# Altium footprint library WE-PFC.PcbLib: 8 footprints
Each footprint in its own frame and in the unit in brackets; x right, y up, seen from the top. Pads: shape width x height; smd on the part's side, far side on the other; paste and mask are expansions set on the pad; w line width, h text height; cw(c..) or ccw(c..) is an arc to the next point about the centre after c.
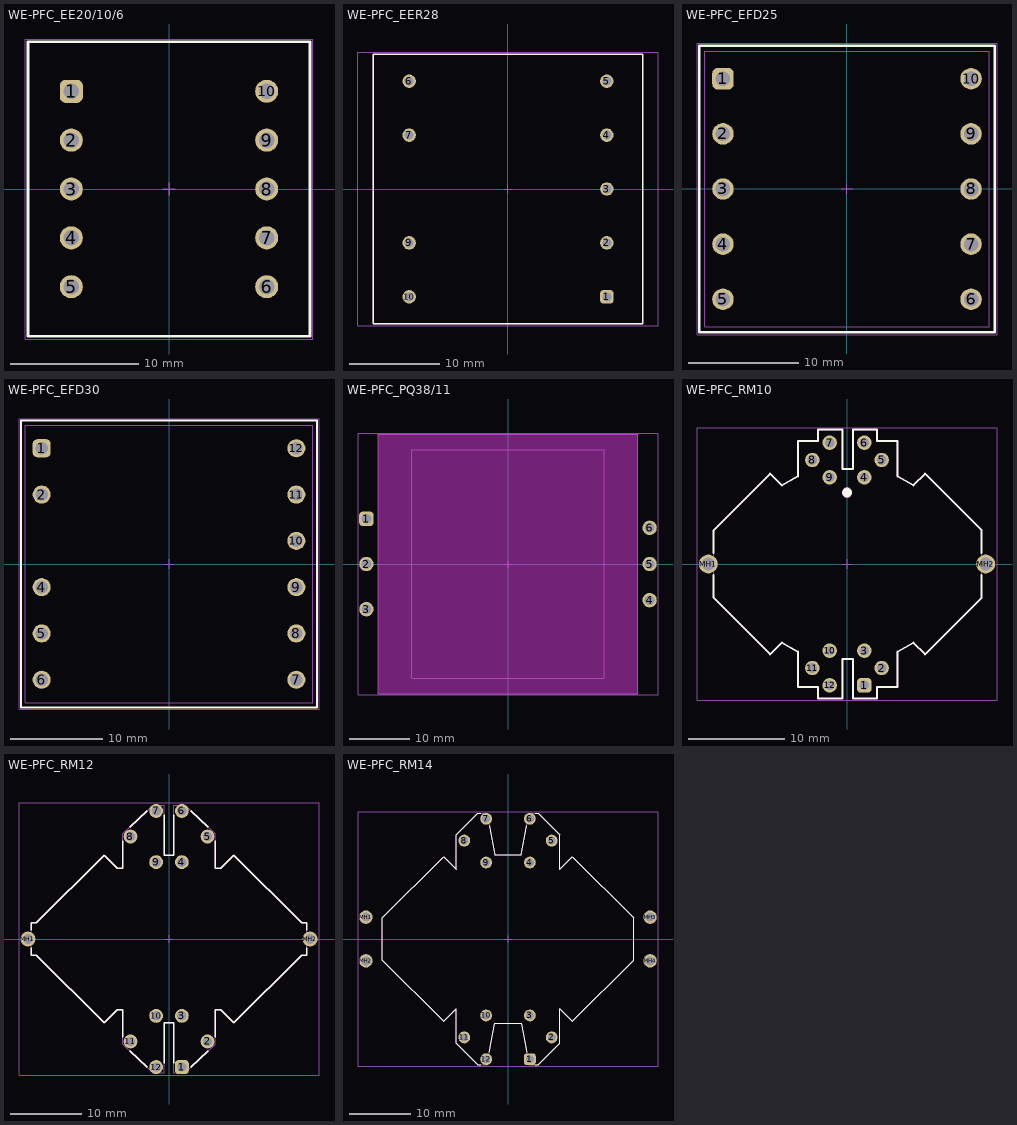
[diagram p0: the footprints below, top view; thin cyan lines are the x and y axes]

## WE-PFC_EE20/10/6 [mm] "PFC Choke, THT, body 22x23mm"
height 17.5
pads (10):
  rrect50% 1.8x1.8 hole 1.2: 1(-7.62,7.62)
  round 1.8 hole 1.2: 2(-7.62,3.81) 3(-7.62,0) 4(-7.62,-3.81) 5(-7.62,-7.62) 6(7.62,-7.62) 7(7.62,-3.81) 8(7.62,0) 9(7.62,3.81) 10(7.62,7.62)
Top Overlay:
  lines w0.2: -11,-11.5 11,-11.5 11,11.5 -11,11.5 -11,-11.5
Top Assembly:
  lines w0.1: -11,-11.5 -11,11.5 11,11.5 11,-11.5 -11,-11.5
Top Designator:
  text ".Designator" at -3.647,-0.357 h1
Top Courtyard:
  lines w0.05: -11.2,-11.7 -11.2,11.7 11.2,11.7 11.2,-11.7 -11.2,-11.7
Top Component Center:
  lines w0.1: -0.5,0 0.5,0 ; 0,-0.5 0,0.5
3D body "EE20_760800080.stp": height 17.05, standoff -3.4, extent -10.55,-11 10.55,11

## WE-PFC_EER28 [mm] "PFC Choke, THT, body 33X30mm"
height 23
pads (9):
  rrect50% 1.5x1.5 hole 1: 1(11,-12)
  round 1.5 hole 1: 2(11,-6) 3(11,0) 4(11,6) 5(11,12) 6(-11,12) 7(-11,6) 9(-11,-6) 10(-11,-12)
Top Overlay:
  lines w0.2: -15,-15 15,-15 15,15 -15,15 -15,-15
Top Assembly:
  lines w0.1: -15,-15 -15,15 15,15 15,-15 -15,-15
Top Designator:
  text ".Designator" at -3.647,-0.357 h1
Top Courtyard:
  lines w0.05: -16.7,-15.2 16.7,-15.2 16.7,15.2 -16.7,15.2 -16.7,-15.2
Top Component Center:
  lines w0.1: -0.5,0 0.5,0 ; 0,-0.5 0,0.5
3D body "EER28_760803200.stp": height 21.4, standoff -3.95, extent -16.5,-14.5 16.5,14.5

## WE-PFC_EFD25 [mm] "PFC Choke, THT, body 25.81X25mm"
height 13.1
pads (10):
  rrect50% 1.95x1.95 hole 1.32: 1(-11.25,10)
  round 1.95 hole 1.32: 2(-11.25,5) 3(-11.25,0) 4(-11.25,-5) 5(-11.25,-10) 6(11.25,-10) 7(11.25,-5) 8(11.25,0) 9(11.25,5) 10(11.25,10)
Top Overlay:
  lines w0.2: -13.405,-13 -13.405,13 13.405,13 13.405,-13 -13.405,-13
Top Assembly:
  lines w0.1: -12.905,-12.5 -12.905,12.5 12.905,12.5 12.905,-12.5 -12.905,-12.5
Top Designator:
  text ".Designator" at -3.647,-0.357 h1
Top Courtyard:
  lines w0.05: -13.605,-13.2 -13.605,13.2 13.605,13.2 13.605,-13.2 -13.605,-13.2
Top Component Center:
  lines w0.1: -0.5,0 0.5,0 ; 0,-0.5 0,0.5
3D body "EFD25_760801031.stp": height 13.15, standoff -3.45, extent -12.905,-12.5 12.905,12.5

## WE-PFC_EFD30 [mm] "PFC Choke, THT, body 31x30mm"
height 14
pads (11):
  rrect50% 1.95x1.95 hole 1.32: 1(-13.75,12.5)
  round 1.95 hole 1.32: 2(-13.75,7.5) 4(-13.75,-2.5) 5(-13.75,-7.5) 6(-13.75,-12.5) 7(13.75,-12.5) 8(13.75,-7.5) 9(13.75,-2.5) 10(13.75,2.5) 11(13.75,7.5) 12(13.75,12.5)
Top Overlay:
  lines w0.2: -16,-15.5 -16,15.5 16,15.5 16,-15.5 -16,-15.5
Top Assembly:
  lines w0.1: -15.5,-15 -15.5,15 15.5,15 15.5,-15 -15.5,-15
Top Designator:
  text ".Designator" at -3.647,-0.357 h1
Top Courtyard:
  lines w0.05: -16.2,-15.7 -16.2,15.7 16.2,15.7 16.2,-15.7 -16.2,-15.7
Top Component Center:
  lines w0.1: -0.5,0 0.5,0 ; 0,-0.5 0,0.5
3D body "EFD30_760802113.stp": height 13.3, standoff -3.5, extent -15.5,-15 15.5,15

## WE-PFC_PQ38/11 [mm] "PFC Choke, THT, body 32x38mm"
height 14
pads (6):
  rrect50% 2.4x2.4 hole 1.6: 1(-23.5,7.5)
  round 2.4 hole 1.6: 2(-23.5,0) 3(-23.5,-7.5) 4(23.5,-6) 5(23.5,0) 6(23.5,6)
Keep-Out Layer:
  board cut-out: -21.5,21.5 21.5,21.5 21.5,-21.5 -21.5,-21.5
Board Shape:
  lines w0.1: -21.5,-21.5 -21.5,21.5 21.5,21.5 21.5,-21.5 -21.5,-21.5
  text "PCB Cutout Area" at -7.2,-0.5 h1.22
Top Assembly:
  lines w0.1: -16,-19 16,-19 16,19 -16,19 -16,-19
Top Designator:
  text ".Designator" at -3.647,-0.357 h1
Top Courtyard:
  lines w0.05: -24.9,-21.7 -24.9,21.7 24.9,21.7 24.9,-21.7 -24.9,-21.7
Top Component Center:
  lines w0.1: -0.5,0 0.5,0 ; 0,-0.5 0,0.5
3D body "PQ38_760806302.stp": height 11.25, standoff -1.78, extent -23.9,-19 23.9,19

## WE-PFC_RM10 [mm] "PFC Choke, THT, body 31x29mm"
height 20
pads (14):
  rrect50% 1.5x1.5 hole 1: 1(1.795,-12.57)
  round 1.5 hole 1: 2(3.59,-10.775) 3(1.795,-8.98) 4(1.795,8.98) 5(3.59,10.775) 6(1.795,12.57) 7(-1.795,12.57) 8(-3.59,10.775) 9(-1.795,8.98) 10(-1.795,-8.98) 11(-3.59,-10.775) 12(-1.795,-12.57)
  round 1.95 hole 1.3: MH1(-14.365,0) MH2(14.365,0)
Top Overlay:
  circle w0.5: c0,7.4 r0.25
  lines w0.2: -13.825,-1.15 -13.825,-3.5 -7.963,-9.362 -6.747,-8.146 -5.095,-9.084 -5.095,-12.724 -2.995,-12.724 -2.995,-13.924 -0.485,-13.924 -0.485,-9.824 0.615,-9.824 0.615,-13.924 3.125,-13.924 3.125,-12.724 5.225,-12.724 5.225,-9.084 6.877,-8.146 8.094,-9.362 13.956,-3.5 13.956,-1.15 ; -13.825,1.15 -13.825,3.5 -7.963,9.362 -6.747,8.146 -5.095,9.084 -5.095,12.724 -2.995,12.724 -2.995,13.924 -0.485,13.924 -0.485,9.824 0.615,9.824 0.615,13.924 3.125,13.924 3.125,12.724 5.225,12.724 5.225,9.084 6.877,8.146 8.094,9.362 13.956,3.5 13.956,1.15
Top Assembly:
  circle w0.1: c0,7.4 r0.5
  lines w0.1: -13.825,-3.5 -7.963,-9.362 -6.747,-8.146 -5.095,-9.084 -5.095,-12.724 -2.995,-12.724 -2.995,-13.924 -0.485,-13.924 -0.485,-9.824 0.615,-9.824 0.615,-13.924 3.125,-13.924 3.125,-12.724 5.225,-12.724 5.225,-9.084 6.877,-8.146 8.094,-9.362 13.956,-3.5 13.956,3.5 8.094,9.362 6.877,8.146 5.225,9.084 5.225,12.724 3.125,12.724 3.125,13.924 0.615,13.924 0.615,9.824 -0.485,9.824 -0.485,13.924 -2.995,13.924 -2.995,12.724 -5.095,12.724 -5.095,9.084 -6.747,8.146 -7.963,9.362 -13.825,3.5 -13.825,-3.5
Top Designator:
  text ".Designator" at -3.647,-0.357 h1
Top Courtyard:
  lines w0.05: -15.54,-14.124 -15.54,14.124 15.54,14.124 15.54,-14.124 -15.54,-14.124
Top Component Center:
  lines w0.1: -0.5,0 0.5,0 ; 0,-0.5 0,0.5
3D body "RM10_760801020.stp": height 18.7, standoff -3.49, extent -14.615,-14.1 14.615,14.1

## WE-PFC_RM12 [mm] "PFC Choke, THT, body 41x40mm"
height 26
pads (14):
  rrect50% 1.95x1.95 hole 1.3: 1(1.8,-17.96)
  round 1.95 hole 1.3: 2(5.4,-14.365) 3(1.8,-10.775) 4(1.8,10.775) 5(5.4,14.365) 6(1.8,17.96) 7(-1.8,17.96) 8(-5.4,14.365) 9(-1.8,10.775) 10(-1.8,-10.775) 11(-5.4,-14.365) 12(-1.8,-17.96)
  round 2.1 hole 1.4: MH1(-19.785,0) MH2(19.785,0)
Top Overlay:
  lines w0.2: -19.35,-1.25 -19.35,-2.25 -18.61,-2.25 -9.106,-11.754 -7.275,-9.922 -6.505,-9.922 -6.505,-13.8 ; -19.35,1.25 -19.35,2.25 -18.61,2.25 -9.106,11.754 -7.275,9.922 -6.505,9.922 -6.505,13.8 ; -5.5,-15.65 -3.074,-17.961 ; -5.5,15.65 -3.074,17.961 ; -0.632,-17.45 -0.632,-11.765 0.632,-11.765 0.632,-17.45 ; -0.632,17.45 -0.632,11.765 0.632,11.765 0.632,17.45 ; 3.074,-17.961 5.5,-15.65 ; 3.074,17.961 5.5,15.65 ; 6.505,-13.8 6.505,-9.922 7.275,-9.922 9.106,-11.754 18.61,-2.25 19.35,-2.25 19.35,-1.25 ; 6.505,13.8 6.505,9.922 7.275,9.922 9.106,11.754 18.61,2.25 19.35,2.25 19.35,1.25
Top Assembly:
  lines w0.1: -19.35,-2.25 -18.61,-2.25 -9.106,-11.754 -7.275,-9.922 -6.505,-9.922 -6.505,-14.732 -2.252,-18.735 -0.632,-18.735 -0.632,-11.765 0.632,-11.765 0.632,-18.735 2.252,-18.735 6.505,-14.732 6.505,-9.922 7.275,-9.922 9.106,-11.754 18.61,-2.25 19.35,-2.25 19.35,2.25 18.61,2.25 9.106,11.754 7.275,9.922 6.505,9.922 6.505,14.732 2.252,18.735 0.632,18.735 0.632,11.765 -0.632,11.765 -0.632,18.735 -2.252,18.735 -6.505,14.732 -6.505,9.922 -7.275,9.922 -9.106,11.754 -18.61,2.25 -19.35,2.25 -19.35,-2.25
Top Designator:
  text ".Designator" at -3.647,-0.357 h1
Top Courtyard:
  lines w0.05: -21.035,-19.135 -21.035,19.135 21.035,19.135 21.035,-19.135 -21.035,-19.135
Top Component Center:
  lines w0.1: -0.5,0 0.5,0 ; 0,-0.5 0,0.5
3D body "RM12_760806200.stp": height 23.5, standoff -3.9, extent -20.015,-19.25 20.015,19.25

## WE-PFC_RM14 [mm] "PFC Choke, THT, body 48x43mm"
height 32
pads (16):
  rrect50% 1.95x1.95 hole 1.3: 1(3.59,-19.755)
  round 1.95 hole 1.3: 2(7.185,-16.165) 3(3.59,-12.57) 4(3.59,12.57) 5(7.185,16.165) 6(3.59,19.755) 7(-3.59,19.755) 8(-7.185,16.165) 9(-3.59,12.57) 10(-3.59,-12.57) 11(-7.185,-16.165) 12(-3.59,-19.755)
  round 2.2 hole 1.5: MH1(-23.35,3.59) MH2(-23.35,-3.59) MH3(23.35,3.59) MH4(23.35,-3.59)
Top Overlay:
  lines w0.2: -4.45,-20.654 -5.002,-20.654 -8.488,-17.168 -8.488,-11.448 -10.595,-13.555 -20.65,-3.5 -20.65,3.5 -10.595,13.555 -8.488,11.448 -8.488,17.168 -5.002,20.654 -4.45,20.654 ; -3.058,-18.611 -2.208,-13.841 2.208,-13.841 3.058,-18.611 ; -3.058,18.611 -2.208,13.841 2.208,13.841 3.058,18.611 ; 4.45,-20.654 5.002,-20.654 8.488,-17.168 8.488,-11.448 10.595,-13.555 20.65,-3.5 20.65,3.5 10.595,13.555 8.488,11.448 8.488,17.168 5.002,20.654 4.45,20.654
Top Assembly:
  lines w0.1: -20.65,-3.5 -20.65,3.5 -10.595,13.555 -8.488,11.448 -8.488,17.168 -5.002,20.654 -3.422,20.654 -2.208,13.841 2.208,13.841 3.422,20.654 5.002,20.654 8.488,17.168 8.488,11.448 10.595,13.555 20.65,3.5 20.65,-3.5 10.595,-13.555 8.488,-11.448 8.488,-17.168 5.002,-20.654 3.422,-20.654 2.208,-13.841 -2.208,-13.841 -3.422,-20.654 -5.002,-20.654 -8.488,-17.168 -8.488,-11.448 -10.595,-13.555 -20.65,-3.5
Top Designator:
  text ".Designator" at -3.647,-0.357 h1
Top Courtyard:
  lines w0.05: -24.65,-20.93 -24.65,20.93 24.65,20.93 24.65,-20.93 -24.65,-20.93
Top Component Center:
  lines w0.1: -0.5,0 0.5,0 ; 0,-0.5 0,0.5
3D body "RM14_760806400.stp": height 30.3, standoff -3.8, extent -23.599,-21 23.599,21